# EAGLE library part ADG5204 (library bontor)
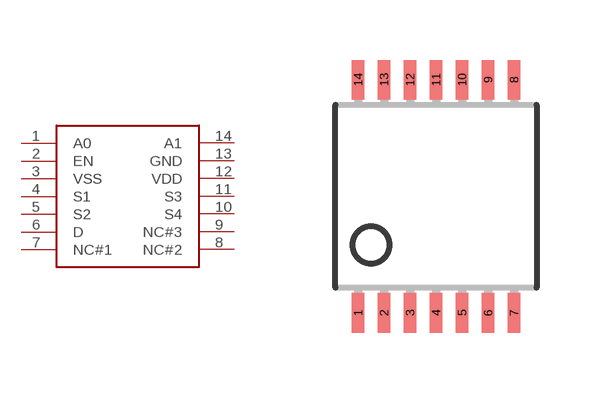
[diagram p7: symbol with the pads of TSSOP-14; footprint TSSOP-14]

Designator prefix -

## ADG5204  [TSSOP-14]
1  A0
2  EN
3  VSS
4  S1
5  S2
6  D
7  NC#1
8  NC#2
9  NC#3
10  S4
11  S3
12  VDD
13  GND
14  A1

## Footprint TSSOP-14 (pad centres in mm)
smd 0.305 x 0.991: 1 -1.95,-2.918; 2 -1.3,-2.918; 3 -0.65,-2.918; 4 0,-2.918; 5 0.65,-2.918; 6 1.3,-2.918; 7 1.95,-2.918; 8 1.95,2.918; 9 1.3,2.918; 10 0.65,2.918; 11 0,2.918; 12 -0.65,2.918; 13 -1.3,2.918; 14 -1.95,2.918